# Altium footprint library Polarimetro v2.1.PcbLib: 40 footprints (part 2 of 3)
Each footprint in its own frame and in the unit in brackets; x right, y up, seen from the top. Pads: shape width x height; smd on the part's side, far side on the other; paste and mask are expansions set on the pad; w line width, h text height; cw(c..) or ccw(c..) is an arc to the next point about the centre after c.
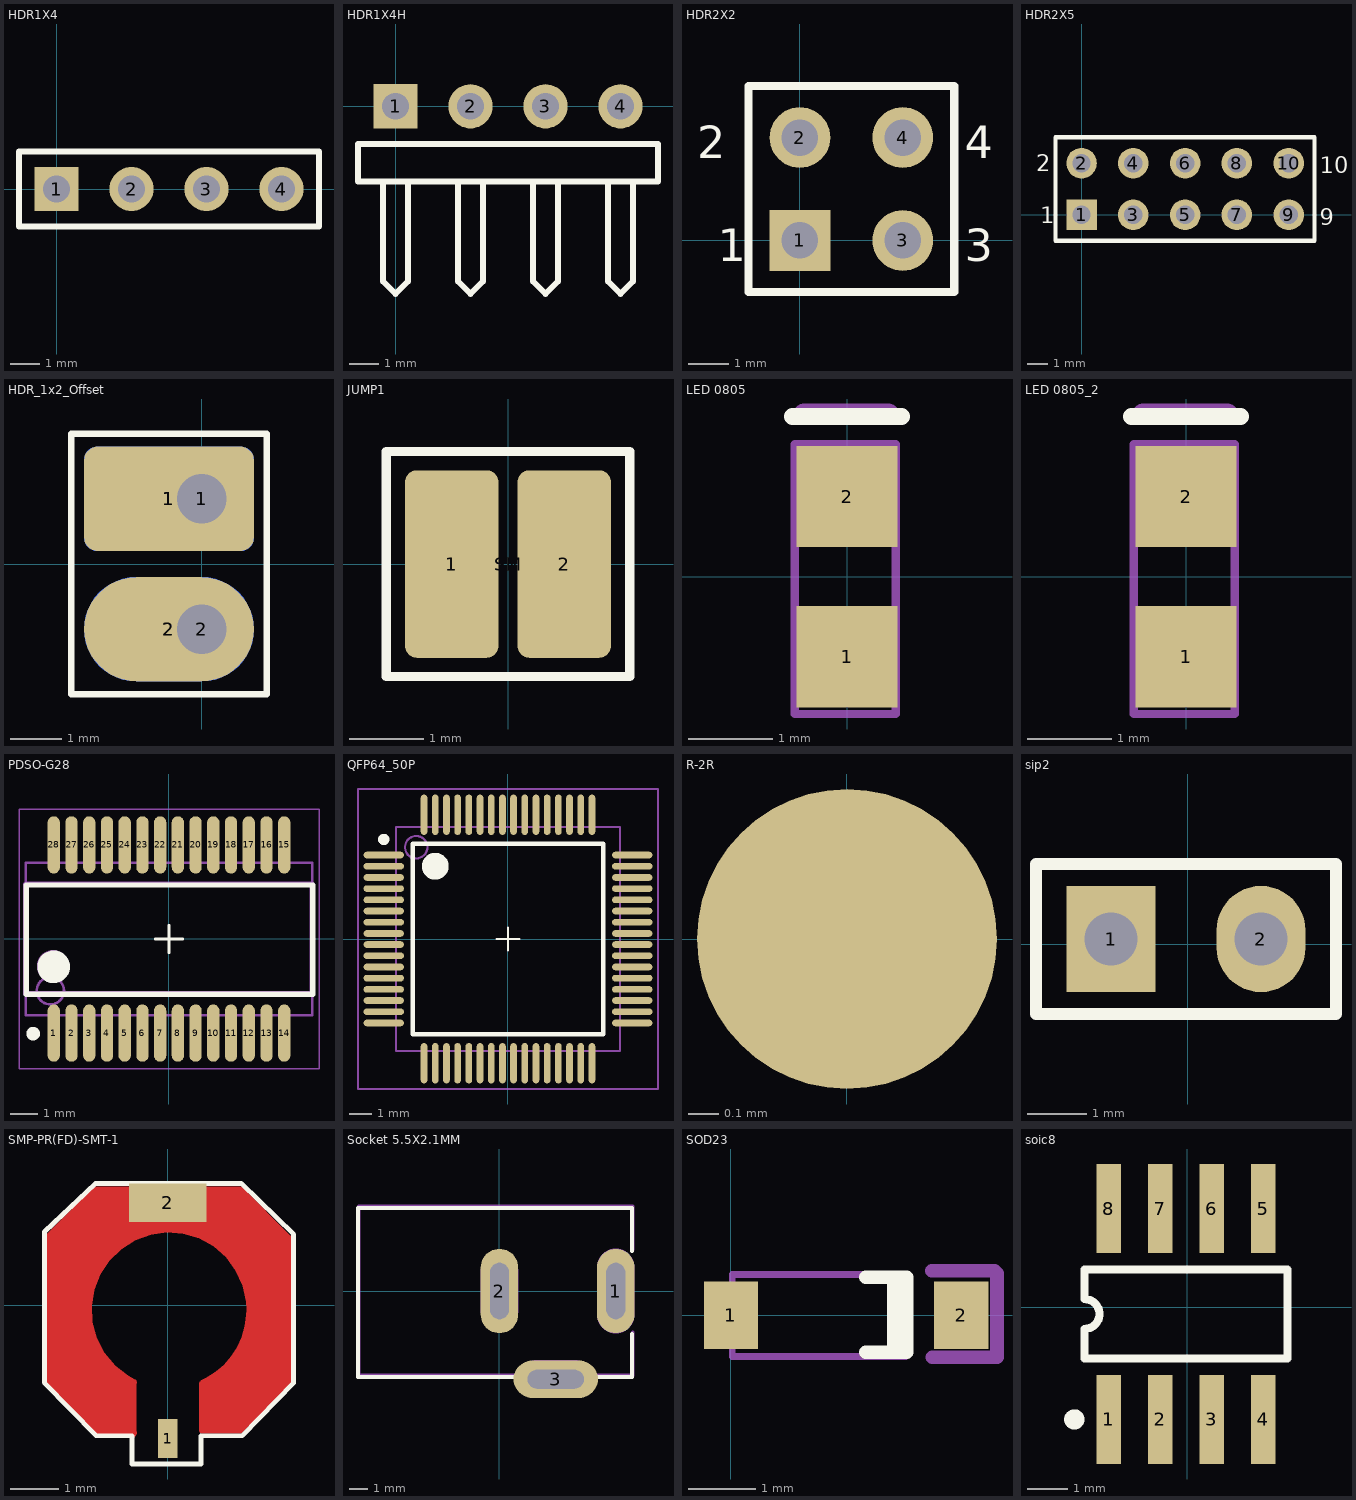
[diagram p1: the footprints below, top view; thin cyan lines are the x and y axes]

## HDR1X4 [mm]
pads (4):
  rect 1.5x1.5 hole 0.9: 1(0,0)
  round 1.5 hole 0.9: 2(2.54,0) 3(5.08,0) 4(7.62,0)
Top Overlay:
  lines w0.2: -1.27,-1.27 -1.27,1.27 8.89,1.27 8.89,-1.27 -1.27,-1.27

## HDR1X4H [mm]
pads (4):
  rect 1.5x1.5 hole 0.9: 1(0,0)
  round 1.5 hole 0.9: 2(2.54,0) 3(5.08,0) 4(7.62,0)
Top Overlay:
  lines w0.2: -0.423,-2.54 -0.423,-5.927 0,-6.35 0.423,-5.927 0.423,-2.54 ; 2.117,-2.54 2.117,-5.927 2.54,-6.35 2.963,-5.927 2.963,-2.54 ; 4.657,-2.54 4.657,-5.927 5.08,-6.35 5.503,-5.927 5.503,-2.54 ; 7.197,-2.54 7.197,-5.927 7.62,-6.35 8.043,-5.927 8.043,-2.54 ; -1.27,-2.54 8.89,-2.54 8.89,-1.27 -1.27,-1.27 -1.27,-2.54

## HDR2X2 [mm]
pads (4):
  rect 1.5x1.5 hole 0.9: 1(0,0)
  round 1.5 hole 0.9: 2(0,2.54) 3(2.54,0) 4(2.54,2.54)
Top Overlay:
  lines w0.2: -1.27,-1.27 -1.27,3.81 3.81,3.81 3.81,-1.27 -1.27,-1.27
  text "1" at -2.032,-0.508 h0.8
  text "2" at -2.54,2.032 h0.8
  text "4" at 4.064,2.032 h0.8
  text "3" at 4.064,-0.508 h0.8

## HDR2X5 [mm]
pads (10):
  rect 1.5x1.5 hole 0.9: 1(0,0)
  round 1.5 hole 0.9: 2(0,2.54) 3(2.54,0) 4(2.54,2.54) 5(5.08,0) 6(5.08,2.54) 7(7.62,0) 8(7.62,2.54) 9(10.16,0) 10(10.16,2.54)
Top Overlay:
  lines w0.2: -1.27,-1.27 11.43,-1.27 11.43,3.81 -1.27,3.81 -1.27,-1.27
  text "10" at 11.684,2.032 h0.8
  text "9" at 11.684,-0.508 h0.8
  text "1" at -2.032,-0.406 h0.8
  text "2" at -2.235,2.134 h0.8

## HDR_1x2_Offset [mil]
pads (6):
  rrect25% 130x80 smd: 1(-25,50)
  rrect25% 130x80 smd far side: 1(-25,50)
  rrect25% 60x60 hole 38: 1(0,50)
  oval 130x80 smd: 2(-25,-50)
  oval 130x80 smd far side: 2(-25,-50)
  round 60 hole 38: 2(0,-50)
Top Overlay:
  lines w5: -100,-100 -100,100 50,100 50,-100 -100,-100

## JUMP1 [mil]
pads (3):
  rrect25% 50x100 smd: 1(-30,0) 2(30,0)
  rrect50% 118x108 on Top Solder: SM(0,0)
Top Overlay:
  lines w5: -65,-60 65,-60 65,60 -65,60 -65,-60
Mechanical 13:
  lines w3: -65,-60 65,-60 65,60 -65,60 -65,-60

## LED 0805 [mm]
pads (2):
  rect 1.2x1.2 smd: 1(0,-0.95) 2(0,0.95)
Top Overlay:
  lines w0.2: -0.65,1.9 0.65,1.9
Mechanical 29:
  lines w0.1: -0.62,-1.63 -0.62,1.57 0.58,1.57 0.58,-1.63 -0.62,-1.63
  lines w0.254: -0.51,1.93 0.49,1.93
3D body "led_0805.step": height 1.1, standoff 0, extent -0.625,-1.01 0.625,1.01

## LED 0805_2 [mm]
pads (2):
  rect 1.2x1.2 smd: 1(0,-0.95) 2(0,0.95)
Top Overlay:
  lines w0.2: -0.65,1.9 0.65,1.9
Mechanical 29:
  lines w0.1: -0.62,-1.63 -0.62,1.57 0.58,1.57 0.58,-1.63 -0.62,-1.63
  lines w0.254: -0.51,1.93 0.49,1.93
3D body "led_0805.step": height 1.1, standoff 0, extent -0.625,-1.01 0.625,1.01

## PDSO-G28 [mm]
pads (28):
  oval 0.45x2.1 smd: 1(-4.223,-3.465) 2(-3.573,-3.465) 3(-2.923,-3.465) 4(-2.273,-3.465) 5(-1.623,-3.465) 6(-0.973,-3.465) 7(-0.323,-3.465) 8(0.327,-3.465) 9(0.977,-3.465) 10(1.627,-3.465) 11(2.277,-3.465) 12(2.927,-3.465) 13(3.577,-3.465) 14(4.227,-3.465) 15(4.227,3.435) 16(3.577,3.435) 17(2.927,3.435) 18(2.277,3.435) 19(1.627,3.435) 20(0.977,3.435) 21(0.327,3.435) 22(-0.323,3.435) 23(-0.973,3.435) 24(-1.623,3.435) 25(-2.273,3.435) 26(-2.923,3.435) 27(-3.573,3.435) 28(-4.223,3.435)
Top Overlay:
  circle w0.6: c-4.228,-1.035 r0.3
  circle w0.25: c-4.978,-3.485 r0.125
  lines w0.1: -0.498,-0.015 0.502,-0.015 ; 0.002,-0.515 0.002,0.485
  lines w0.2: -5.228,-2.035 -5.228,1.965 5.272,1.965 5.272,-2.035 -5.228,-2.035
Mechanical 13:
  circle w0.1: c-4.348,-1.915 r0.5
  lines w0.1: -5.248,-2.815 5.252,-2.815 5.252,2.785 -5.248,2.785 -5.248,-2.815
Mechanical 15:
  lines w0.05: -5.498,-4.765 5.502,-4.765 5.502,4.735 -5.498,4.735 -5.498,-4.765
Mechanical 16:
  circle w0.6: c-4.248,-1.015 r0.3
  lines w0.2: -5.248,-2.015 5.252,-2.015 5.252,1.985 -5.248,1.985 -5.248,-2.015
Mechanical 29:
  text "'.Designator'" at -0.372,-0.059 h0.5
3D body "PWP (R-PDSO-G28).STEP": height 1.2, standoff 0, extent -4.898,-3.336 4.902,3.285

## QFP64_50P [mm]
pads (64):
  oval 1.8x0.3 smd: 1(-5.55,3.75) 2(-5.55,3.25) 3(-5.55,2.75) 4(-5.55,2.25) 5(-5.55,1.75) 6(-5.55,1.25) 7(-5.55,0.75) 8(-5.55,0.25) 9(-5.55,-0.25) 10(-5.55,-0.75) 11(-5.55,-1.25) 12(-5.55,-1.75) 13(-5.55,-2.25) 14(-5.55,-2.75) 15(-5.55,-3.25) 16(-5.55,-3.75) 33(5.55,-3.75) 34(5.55,-3.25) 35(5.55,-2.75) 36(5.55,-2.25) 37(5.55,-1.75) 38(5.55,-1.25) 39(5.55,-0.75) 40(5.55,-0.25) 41(5.55,0.25) 42(5.55,0.75) 43(5.55,1.25) 44(5.55,1.75) 45(5.55,2.25) 46(5.55,2.75) 47(5.55,3.25) 48(5.55,3.75)
  oval 0.3x1.8 smd: 17(-3.75,-5.55) 18(-3.25,-5.55) 19(-2.75,-5.55) 20(-2.25,-5.55) 21(-1.75,-5.55) 22(-1.25,-5.55) 23(-0.75,-5.55) 24(-0.25,-5.55) 25(0.25,-5.55) 26(0.75,-5.55) 27(1.25,-5.55) 28(1.75,-5.55) 29(2.25,-5.55) 30(2.75,-5.55) 31(3.25,-5.55) 32(3.75,-5.55) 49(3.75,5.55) 50(3.25,5.55) 51(2.75,5.55) 52(2.25,5.55) 53(1.75,5.55) 54(1.25,5.55) 55(0.75,5.55) 56(0.25,5.55) 57(-0.25,5.55) 58(-0.75,5.55) 59(-1.25,5.55) 60(-1.75,5.55) 61(-2.25,5.55) 62(-2.75,5.55) 63(-3.25,5.55) 64(-3.75,5.55)
Top Overlay:
  circle w0.25: c-5.55,4.45 r0.125
  circle w0.6: c-3.25,3.25 r0.3
  lines w0.1: -0.5,0 0.5,0 ; 0,-0.5 0,0.5
  lines w0.2: -4.25,-4.25 -4.25,4.25 4.25,4.25 4.25,-4.25 -4.25,-4.25
Mechanical 15:
  lines w0.1: -6.7,-6.7 -6.7,6.7 6.7,6.7 6.7,-6.7 -6.7,-6.7
Mechanical 29:
  circle w0.1: c-4.1,4.1 r0.5
  lines w0.1: -5,-5 -5,5 5,5 5,-5 -5,-5
  text "'.Designator'" at -2.582,-0.159 h0.5
3D body "QFP64p50.step": height 1.75, standoff 0, extent -5.994,-6.008 6.034,6.02

## R-2R [mm]
pads (1):
  round 1 smd paste-1 mask+0.5: ""(0,0)

## sip2 [mm]
pads (2):
  rect 1.5x1.8 hole 0.9: 1(-1.298,0.086)
  oval 1.5x1.8 hole 0.9: 2(1.242,0.086)
Top Overlay:
  lines w0.2: -2.568,-1.184 2.512,-1.184 2.512,1.356 -2.568,1.356 -2.568,-1.184
3D body "HDR1x2.STEP": height 10.1, standoff -1.5, extent -2.573,-1.165 2.507,1.375

## SMP-PR(FD)-SMT-1 [mm]
pads (2):
  rect 0.4x0.8 smd: 1(0,-2.75)
  rect 1.6x0.8 smd: 2(0,2.125)
Top Layer:
  region: -1.535,-2.628 -1.533,-2.644 -1.523,-2.674 -1.507,-2.701 -1.485,-2.725 -1.473,-2.734 -0.711,-2.734 -0.69,-2.726 -0.659,-2.696 -0.642,-2.656 -0.641,-2.613 -0.649,-2.593 -0.649,-1.618 -0.647,-1.613 -0.645,-1.605 -0.643,-1.595 -0.643,-1.586 -0.643,-1.582 -0.643,-1.575 -0.647,-1.561 -0.655,-1.549 -0.665,-1.539 -0.672,-1.536 -0.821,-1.454 -1.09,-1.244 -1.308,-0.982 -1.466,-0.679 -1.557,-0.351 -1.576,-0.01 -1.522,0.327 -1.398,0.645 -1.21,0.929 -0.966,1.168 -0.677,1.349 -0.356,1.465 -0.018,1.51 0.322,1.484 0.649,1.385 0.947,1.22 1.204,0.996 1.407,0.722 1.548,0.411 1.621,0.078 1.63,-0.093 1.626,-0.207 1.593,-0.433 1.529,-0.652 1.434,-0.859 1.311,-1.051 1.162,-1.224 0.99,-1.374 0.798,-1.498 0.697,-1.549 0.692,-1.551 0.684,-1.557 0.677,-1.564 0.672,-1.573 0.67,-1.577 0.666,-1.581 0.658,-1.59 0.653,-1.6 0.65,-1.612 0.65,-1.618 0.65,-2.593 0.65,-2.602 0.657,-2.619 0.669,-2.633 0.686,-2.642 0.695,-2.643 1.522,-2.643 2.536,-1.628 2.54,-1.625 2.545,-1.617 2.549,-1.607 2.551,-1.598 2.551,-1.593 2.551,1.407 2.551,1.412 2.549,1.422 2.545,1.432 2.54,1.44 2.536,1.443 1.537,2.443 1.533,2.446 1.525,2.452 1.516,2.456 1.506,2.458 1.501,2.458 -1.499,2.458 -1.504,2.458 -1.514,2.456 -1.523,2.452 -1.532,2.446 -1.535,2.443 -2.535,1.443 -2.538,1.44 -2.544,1.432 -2.548,1.422 -2.55,1.412 -2.55,1.407 -2.55,-1.593 -2.55,-1.598 -2.548,-1.607 -2.544,-1.617 -2.538,-1.625 -2.535,-1.628
Top Overlay:
  lines w0.1: -2.55,-1.598 -1.482,-2.692 -0.737,-2.692 -0.737,-3.277 0.686,-3.277 0.686,-2.692 1.538,-2.692 2.6,-1.602 2.6,1.472 1.52,2.525 -1.493,2.525 -2.55,1.52 -2.55,-1.598
Top Solder:
  lines w0.2: -0.95,2.425 -1.4,2.425 -2.425,1.425 -2.45,-1.5 -1.375,-2.625 -0.75,-2.625 ; 0.737,-2.616 1.448,-2.616 1.626,-2.438 2.489,-1.575 2.5,-1.338 2.5,1.425 1.45,2.4 0.9,2.375
3D body "WRF-1800034_SMP-PR(FD)-SMT-1.stp": height 4.39, standoff 0, extent -2.525,-2.949 2.475,2.451

## Socket 5.5X2.1MM [mm]
pads (3):
  oval 2x4.5 hole 1 slot 3 at 90 deg: 1(6.2,0) 2(0,0)
  oval 4.5x2 hole 1 slot 3 at 0 deg: 3(3,-4.7)
Top Overlay:
  lines w0.2: 0.76,-4.58 -7.54,-4.58 -7.54,4.42 7.06,4.42 7.06,2.12 ; 5.16,-4.58 7.06,-4.58 7.06,-2.28
Mechanical 1:
  lines w1: 0,-1 0,1 ; 2,-5 4,-5 ; 6.2,-1.25 6.2,1.25
  text "Alert PCB fab to slot details" at -7.214,6.066 h0.3
  text "Assign keep-out area to slot" at -7.214,6.566 h0.3
  text "Mech 1 - Slot cut-out" at -7.214,5.566 h0.3
  text "Mech 2 - Clearance, move to internal plane if present" at -7.214,5.066 h0.3
Mechanical 2:
  lines w2.016: 0,-1 0,1 ; 2.007,-4.674 4.007,-4.674 ; 6.2,-1.25 6.2,1.25
Mechanical 29:
  lines w0.2: 0.8,-4.5 -7.5,-4.5 -7.5,4.5 7.1,4.5 7.1,2.2 ; 5.2,-4.5 7.1,-4.5 7.1,-2.2
  text "'.Designator'" at -7.008,-3.972 h0.5
3D body "User Library-PowerJack-2_5x5_7mm.step": height 11, standoff -3.5, extent -8.407,-4.773 6.793,4.627

## SOD23 [mm]
pads (2):
  rect 0.8x1 smd: 1(0,0) 2(3.4,0)
Top Overlay:
  lines w0.2: 1.992,0.56 2.592,0.56 2.592,-0.54 ; 2.402,0.5 2.402,-0.55 1.992,-0.55 2.592,-0.55
Mechanical 29:
  lines w0.1: 0.02,-0.61 0.02,0.6 2.582,0.6 2.582,-0.61 0.02,-0.61
  lines w0.2: 2.964,0.657 3.89,0.657 3.927,0.62 3.927,-0.623 2.974,-0.623
3D body "SOD123.step": height 1.27, standoff 0, extent -0.18,-0.8 3.52,0.8

## soic8 [mm]
pads (8):
  rect 0.6x2.2 smd: 1(-1.936,-2.77) 2(-0.666,-2.77) 3(0.604,-2.77) 4(1.874,-2.77) 5(1.874,2.43) 6(0.604,2.43) 7(-0.666,2.43) 8(-1.936,2.43)
Top Overlay:
  circle w0.25: c-2.786,-2.77 r0.125
  lines w0.2: -2.531,-1.27 -2.531,-0.537 ccw(c-2.531,-0.17) -2.531,0.196 -2.531,0.93 2.469,0.93 2.469,-1.27 -2.531,-1.27
3D body "so-8.step": height 1.88, standoff -0.03, extent -2.547,-3.289 2.457,3.05